# Altium footprint library DC2DC_Buck_Boost_Converter_Layout.PcbLib: 29 footprints (part 1 of 2)
Each footprint in its own frame and in the unit in brackets; x right, y up, seen from the top. Pads: shape width x height; smd on the part's side, far side on the other; paste and mask are expansions set on the pad; w line width, h text height; cw(c..) or ccw(c..) is an arc to the next point about the centre after c.
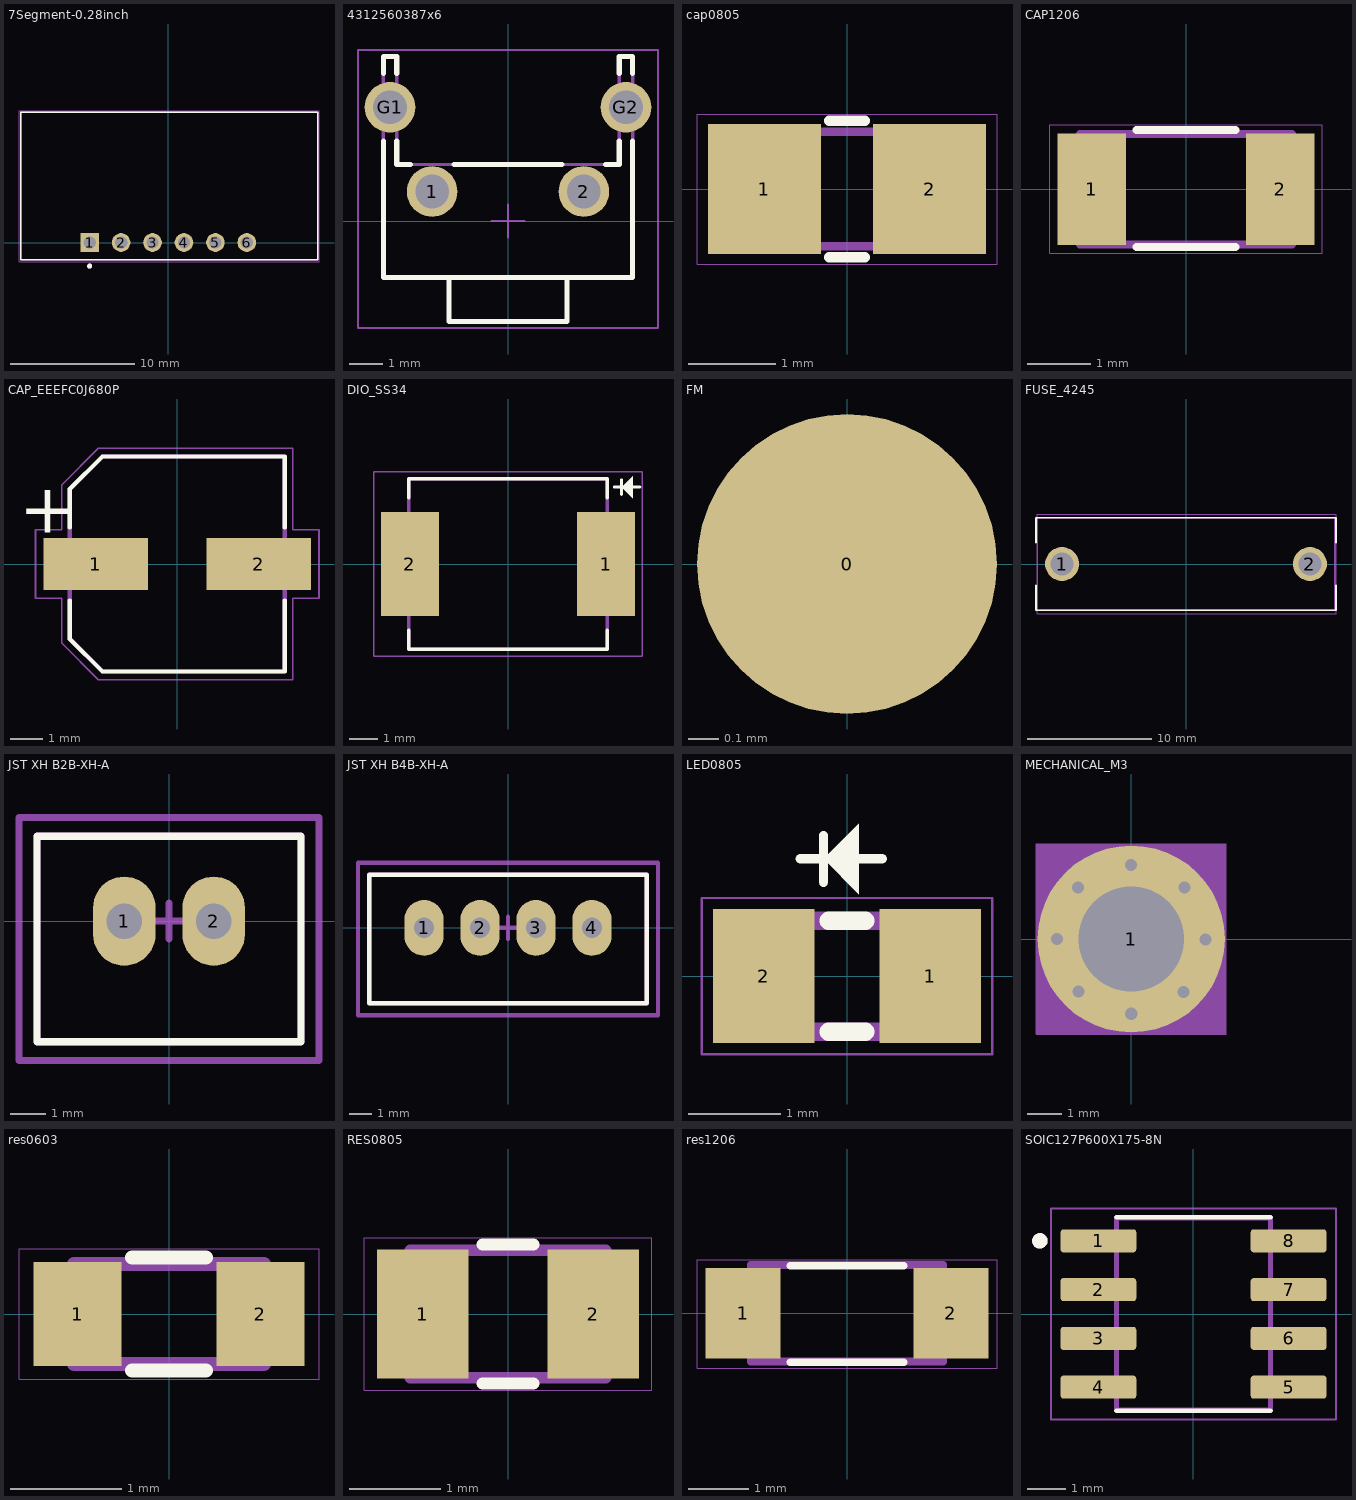
[diagram p0: the footprints below, top view; thin cyan lines are the x and y axes]

## 7Segment-0.28inch [mm]
height 10
pads (6):
  rect 1.508x1.508 / inner round 1.508 / far side rect 1.508x1.508 hole 1: 1(-6.35,0)
  round 1.508 hole 1: 2(-3.81,0) 3(-1.27,0) 4(1.27,0) 5(3.81,0) 6(6.35,0)
Top Overlay:
  circle w0.2: c-6.35,-1.905 r0.1
  lines w0.127: -11.922,-1.397 12.078,-1.397 12.078,10.541 -11.922,10.541 -11.922,-1.397
Mechanical 13:
  circle w0.2: c-6.35,-1.905 r0.1
  lines w0.127: 11.98,10.541 -11.922,10.541 -11.922,-1.397 12.078,-1.397 12.078,10.541
Mechanical 15:
  lines w0.05: -12.059,-1.549 12.181,-1.549 12.181,10.651 -12.059,10.651 -12.059,-1.549
3D body "segment display 3D model.STEP": height 5, standoff -4.5, extent 3.615,-0.928 10.715,10.072
3D body "segment display 3D model.STEP": height 5, standoff -4.5, extent -3.485,-0.928 3.615,10.072
3D body "segment display 3D model.STEP": height 5, standoff -4.5, extent -10.585,-0.928 -3.485,10.072

## 4312560387x6 [mm] "6x6mm right angle Tact Switch with ground terminal, THT version"
height 7.2
pads (4):
  round 1.5 hole 1: 1(-2.25,0.875) 2(2.25,0.875) G1(-3.5,3.375) G2(3.5,3.375)
Top Overlay:
  lines w0.15: -3.7,2.375 -3.7,-1.675 3.7,-1.675 3.7,2.375 ; -3.7,4.375 -3.7,4.875 -3.3,4.875 -3.3,4.375 ; -3.3,2.375 -3.3,1.675 -2.9,1.675 ; -1.75,-1.675 -1.75,-2.975 1.75,-2.975 1.75,-1.675 ; -1.6,1.675 1.6,1.675 ; 2.9,1.675 3.3,1.675 3.3,2.375 ; 3.3,4.375 3.3,4.875 3.7,4.875 3.7,4.375
Top Courtyard:
  lines w0.05: -0.5,0 0.5,0 ; 0,-0.5 0,0.5 ; -4.45,-3.175 -4.45,5.075 4.45,5.075 4.45,-3.175 -4.45,-3.175
Top Component Outline:
  lines w0.1: -1.75,-1.675 -1.75,-2.975 1.75,-2.975 1.75,-1.675 ; -3.7,-1.675 -3.7,4.875 -3.3,4.875 -3.3,1.675 3.3,1.675 3.3,4.875 3.7,4.875 3.7,-1.675 -3.7,-1.675
3D body "4312560387x6.stp": height 7.25, standoff -3.45, extent -4.2,-2.975 4.2,4.875

## cap0805 [mm]
height 10
pads (2):
  rect 1.3x1.5 smd: 1(-0.95,0) 2(0.95,0)
Top Overlay:
  lines w0.12: -0.203,-0.787 0.203,-0.787 ; -0.203,0.787 0.203,0.787
Mechanical 13:
  region: 1.106,-0.724 0.356,-0.724 0.356,0.726 1.106,0.726
  region: -0.342,-0.724 -1.092,-0.724 -1.092,0.726 -0.342,0.726
  lines w0.102: -0.381,0.66 0.381,0.66 ; -0.356,-0.66 0.381,-0.66
Mechanical 16:
  lines w0.01: -1.727,-0.864 1.727,-0.864 1.727,0.864 -1.727,0.864 -1.727,-0.864
3D body "step_temp.STEP": height 1.46, standoff 0.01, extent -1,-0.625 1,0.625

## CAP1206 [mm]
height 10
pads (2):
  rect 1.08x1.77 smd: 1(-1.495,0) 2(1.495,0)
Top Overlay:
  lines w0.127: -0.787,-0.914 0.787,-0.914 ; -0.787,0.94 0.787,0.94
Mechanical 13:
  lines w0.127: -1.68,-0.88 -1.68,0.88 1.68,0.88 1.68,-0.88 -1.68,-0.88
Mechanical 16:
  lines w0.01: -2.159,-1.016 2.159,-1.016 2.159,1.023 -2.159,1.023 -2.159,-1.016
3D body "CL31B106KBHNNNE--3DModel-STEP-510211.STEP": height 1.61, standoff 0.01, extent -1.6,-0.889 1.6,0.911

## CAP_EEEFC0J680P [mm]
height 10
pads (2):
  rect 3.2x1.6 smd: 1(-2.5,0) 2(2.5,0)
Top Overlay:
  lines w0.127: -3.3,-1.12 -3.3,-2.3 -2.3,-3.3 3.3,-3.3 3.3,-1.12 ; -3.3,1.12 -3.3,2.3 -2.3,3.3 3.3,3.3 3.3,1.12
  text "+" at -4.858,0.954 h1.52
Mechanical 13:
  lines w0.127: -3.3,-2.3 -3.3,2.3 -2.3,3.3 3.3,3.3 3.3,-3.3 -2.3,-3.3 -3.3,-2.3
Mechanical 15:
  lines w0.05: -4.35,-1.05 -3.55,-1.05 -3.55,-2.425 -2.425,-3.55 3.55,-3.55 3.55,-1.05 4.35,-1.05 4.35,1.05 3.55,1.05 3.55,3.55 -2.425,3.55 -3.55,2.425 -3.55,1.05 -4.35,1.05 -4.35,-1.05
3D body "step_temp.STEP": height 0, standoff 0, extent 0,0 0,0
3D body "EEE-FC0J680P.STEP": height 5.85, standoff 0.05, extent -3.65,-3.3 3.65,3.3

## DIO_SS34 [mm]
height 2.65
pads (2):
  rect 2x3.6 smd: 1(3.4,0) 2(-3.4,0)
Top Overlay:
  region: 3.937,2.667 4.318,3.048 4.318,2.286
  lines w0.102: 3.683,2.667 4.572,2.667 ; 3.937,2.413 3.937,2.921
  lines w0.127: -3.437,-2.3 -3.437,-2.95 3.437,-2.95 3.437,-2.3 ; -3.437,2.3 -3.437,2.95 3.437,2.95 3.437,2.3
Mechanical 13:
  lines w0.127: -3.437,-2.95 3.437,-2.95 3.437,2.95 -3.437,2.95 -3.437,-2.95
Mechanical 15:
  lines w0.05: -4.65,-3.2 4.65,-3.2 4.65,3.2 -4.65,3.2 -4.65,-3.2
3D body "step_temp.STEP": height 2.65, standoff 0, extent -3.975,-2.95 3.975,2.95

## FM [mm]
height 10
pads (1):
  round 1 / inner round 0 / far side round 1 all layers, no hole mask+0.5: 0(0,0)

## FUSE_4245 [mm]
height 10.92
pads (2):
  round 2.745 hole 1.83: 1(-10,0) 2(10,0)
Top Overlay:
  lines w0.127: -12.105,-1.72 -12.105,-3.745 12.105,-3.745 12.105,-1.72 ; -12.105,1.72 -12.105,3.745 12.105,3.745 12.105,1.72
Mechanical 13:
  lines w0.127: -12,-3.745 -12,3.745 12,3.745 12,-3.745 -12,-3.745
Mechanical 15:
  lines w0.05: -12,-3.995 12.105,-3.995 12.105,3.995 -12,3.995 -12,-3.995
3D body "BK-6003--3DModel-STEP-46669.STEP": height 10.98, standoff -3.43, extent -12.128,-4.004 -4,4.004
3D body "BK-6003--3DModel-STEP-46669.STEP": height 10.98, standoff -3.43, extent 3.936,-4.005 12.064,4.004
3D body "5SFP 1-R.STEP": height 9.41, standoff 4.31, extent -10,-2.433 10,2.667

## JST XH B2B-XH-A [mm]
height 7
pads (2):
  oval 1.75x2.5 hole 1: 1(-1.25,0) 2(1.25,0)
Top Overlay:
  lines w0.2: -3.7,-3.375 3.7,-3.375 3.7,2.375 -3.7,2.375 -3.7,-3.375
Mechanical 1:
  lines w0.2: -3.7,-3.375 -3.7,2.375 3.7,2.375 3.7,-3.375 -3.7,-3.375
Mechanical 15:
  lines w0.2: -0.5,0 0.5,0 ; 0,-0.5 0,0.5 ; -4.2,-3.9 4.2,-3.9 4.2,2.9 -4.2,2.9 -4.2,-3.9
3D body "JST B2B-XH-A.STEP": height 7, standoff -3.4, extent -3.7,-3.375 3.7,2.375

## JST XH B4B-XH-A [mm]
height 7
pads (4):
  oval 1.75x2.5 hole 0.9: 1(-3.75,0) 2(-1.25,0) 3(1.25,0) 4(3.75,0)
Top Overlay:
  lines w0.2: -6.2,-3.375 -6.2,2.375 6.2,2.375 6.2,-3.375 -6.2,-3.375
Mechanical 1:
  lines w0.2: -6.2,-3.375 6.2,-3.375 6.2,2.375 -6.2,2.375 -6.2,-3.375
Mechanical 15:
  lines w0.2: -0.5,0 0.5,0 ; 0,-0.5 0,0.5 ; -6.7,-3.9 -6.7,2.9 6.7,2.9 6.7,-3.9 -6.7,-3.9
3D body "JST B4B-XH-A.STEP": height 7, standoff -3.4, extent -6.2,-3.375 6.2,2.375

## LED0805 [mm]
height 10
pads (2):
  rect 1.1x1.45 smd: 1(0.9,0) 2(-0.9,0)
Top Overlay:
  region: -0.254,1.27 0.127,1.651 0.127,0.889
  lines w0.102: -0.508,1.27 0.381,1.27 ; -0.254,1.016 -0.254,1.524
  lines w0.2: -0.2,-0.6 0.2,-0.6 ; -0.2,0.6 0.2,0.6
Mechanical 13:
  region: 1,-0.6 0.5,-0.6 0.5,0.6 1,0.6
  region: -0.5,-0.6 -1,-0.6 -1,0.6 -0.5,0.6
  lines w0.2: -1,-0.6 -1,0.6 1,0.6 1,-0.6 -1,-0.6
Mechanical 16:
  lines w0.025: -1.572,-0.846 -1.572,0.847 1.573,0.847 1.573,-0.846 -1.572,-0.846
3D body "step_temp.STEP": height 0.7, standoff 0, extent -1,-0.625 1,0.625

## MECHANICAL_M3 [mm] "MECHANICAL_M3"
height 5.6
pads (1):
  round 5.5 hole 3.1: 1(0,0)
via 2.184,-0.013 diameter 0.533 hole 0.356
via 1.562,1.511 diameter 0.533 hole 0.356
via -0.013,2.172 diameter 0.533 hole 0.356
via -1.562,1.511 diameter 0.533 hole 0.356
via -2.184,0 diameter 0.533 hole 0.356
via -1.549,-1.549 diameter 0.533 hole 0.356
via 0,-2.197 diameter 0.533 hole 0.356
via 1.537,-1.562 diameter 0.533 hole 0.356
Top Layer:
  lines w1.016: -1.6,-1.5 ccw(c0,-0.013) 1.551,-1.551 ccw(c0,-0.013) 2.184,-0.013 ccw(c0,-0.013) 2.184,0 ccw(c0,-0.013) -1.538,1.538 ccw(c0,-0.013) -1.6,-1.5
Top Overlay:
Bottom Overlay:
  lines w0.025: -2.8,-2.8 -2.8,2.8 2.8,2.8 2.8,-2.8 -2.8,-2.8
Mechanical 7:
  circle w0.254: c0,-0.013 r2.558
  lines w0.025: -2.8,-2.8 -2.8,2.8 2.8,2.8 2.8,-2.8 -2.8,-2.8
Mechanical 8:
  region: -2.8,-2.8 2.8,-2.8 2.8,2.8 -2.8,2.8

## res0603 [mm]
height 10
pads (2):
  rect 0.79x0.93 smd: 1(-0.82,0) 2(0.82,0)
Top Overlay:
  lines w0.127: -0.33,-0.508 0.33,-0.508 ; -0.33,0.508 0.33,0.508
Mechanical 13:
  lines w0.127: -0.85,-0.45 0.85,-0.45 0.85,0.45 -0.85,0.45 -0.85,-0.45
Mechanical 16:
  lines w0.01: -1.346,-0.584 1.346,-0.584 1.346,0.584 -1.346,0.584 -1.346,-0.584
3D body "RT0603DRD07243RL.STEP": height 0.45, standoff 0, extent -0.8,-0.4 0.8,0.4

## RES0805 [mm]
height 10
pads (2):
  rect 1x1.42 smd: 1(-0.935,0) 2(0.935,0)
Top Overlay:
  lines w0.127: -0.279,-0.762 0.279,-0.762 ; -0.279,0.762 0.279,0.762
Mechanical 13:
  lines w0.127: -1.07,-0.7 -1.07,0.7 1.07,0.7 1.07,-0.7 -1.07,-0.7
Mechanical 16:
  lines w0.01: -1.575,-0.838 1.575,-0.838 1.575,0.838 -1.575,0.838 -1.575,-0.838
3D body "step_temp.STEP": height 0.6, standoff 0, extent -1,-0.625 1,0.625

## res1206 [mm]
height 10
pads (2):
  rect 1.25x1.5 smd: 1(-1.725,0) 2(1.725,0)
Top Overlay:
  lines w0.127: -0.94,-0.813 0.94,-0.813 ; -0.94,0.787 0.94,0.787
Mechanical 13:
  lines w0.127: -1.6,-0.8 1.6,-0.8 1.6,0.8 -1.6,0.8 -1.6,-0.8
Mechanical 16:
  lines w0.01: -2.489,-0.914 -2.489,0.889 2.489,0.889 2.489,-0.914 -2.489,-0.914
3D body "ERJ-P08F3300V.STEP": height 0.63, standoff 0.03, extent -1.6,-0.8 1.6,0.8

## SOIC127P600X175-8N [mm]
height 10
pads (8):
  rrect25% 1.97x0.6 smd: 1(-2.475,1.905) 2(-2.475,0.635) 3(-2.475,-0.635) 4(-2.475,-1.905) 5(2.475,-1.905) 6(2.475,-0.635) 7(2.475,0.635) 8(2.475,1.905)
Top Overlay:
  circle w0.2: c-4,1.905 r0.1
  lines w0.127: -2,-2.519 2,-2.519 ; -2,2.519 2,2.519
Mechanical 13:
  circle w0.2: c-4,1.905 r0.1
  lines w0.127: -2,-2.5 -2,2.5 2,2.5 2,-2.5 -2,-2.5
Mechanical 15:
  lines w0.05: -3.71,-2.75 -3.71,2.75 3.71,2.75 3.71,-2.75 -3.71,-2.75
3D body "AO4407A.STEP": height 1.75, standoff 0, extent -3,-2.45 3,2.45